# EAGLE library part 2776440 (library 2776440)
PHOENIX CONTACT MPT 0,5/ 7-2,54
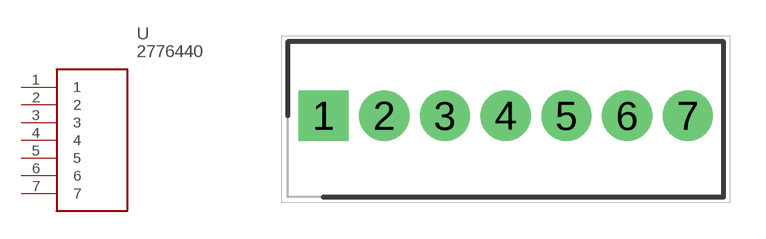
[diagram p0: symbol with the pads of 2776440; footprint 2776440]

Designator prefix -

## 2776440  [2776440]
1  1
2  2
3  3
4  4
5  5
6  6
7  7

## Footprint 2776440 (pad centres in mm)
drill 1.4 pad 2.1 square: 1 2.05,3.97
drill 1.4 pad 2.1: 2 4.59,3.97; 3 7.13,3.97; 4 9.67,3.97; 5 12.21,3.97; 6 14.75,3.97; 7 17.29,3.97